# Altium integrated library TI Converter Digital to Analog.IntLib: 40 symbols
Pins are listed as number, name and electrical type; pins without a type are passive.

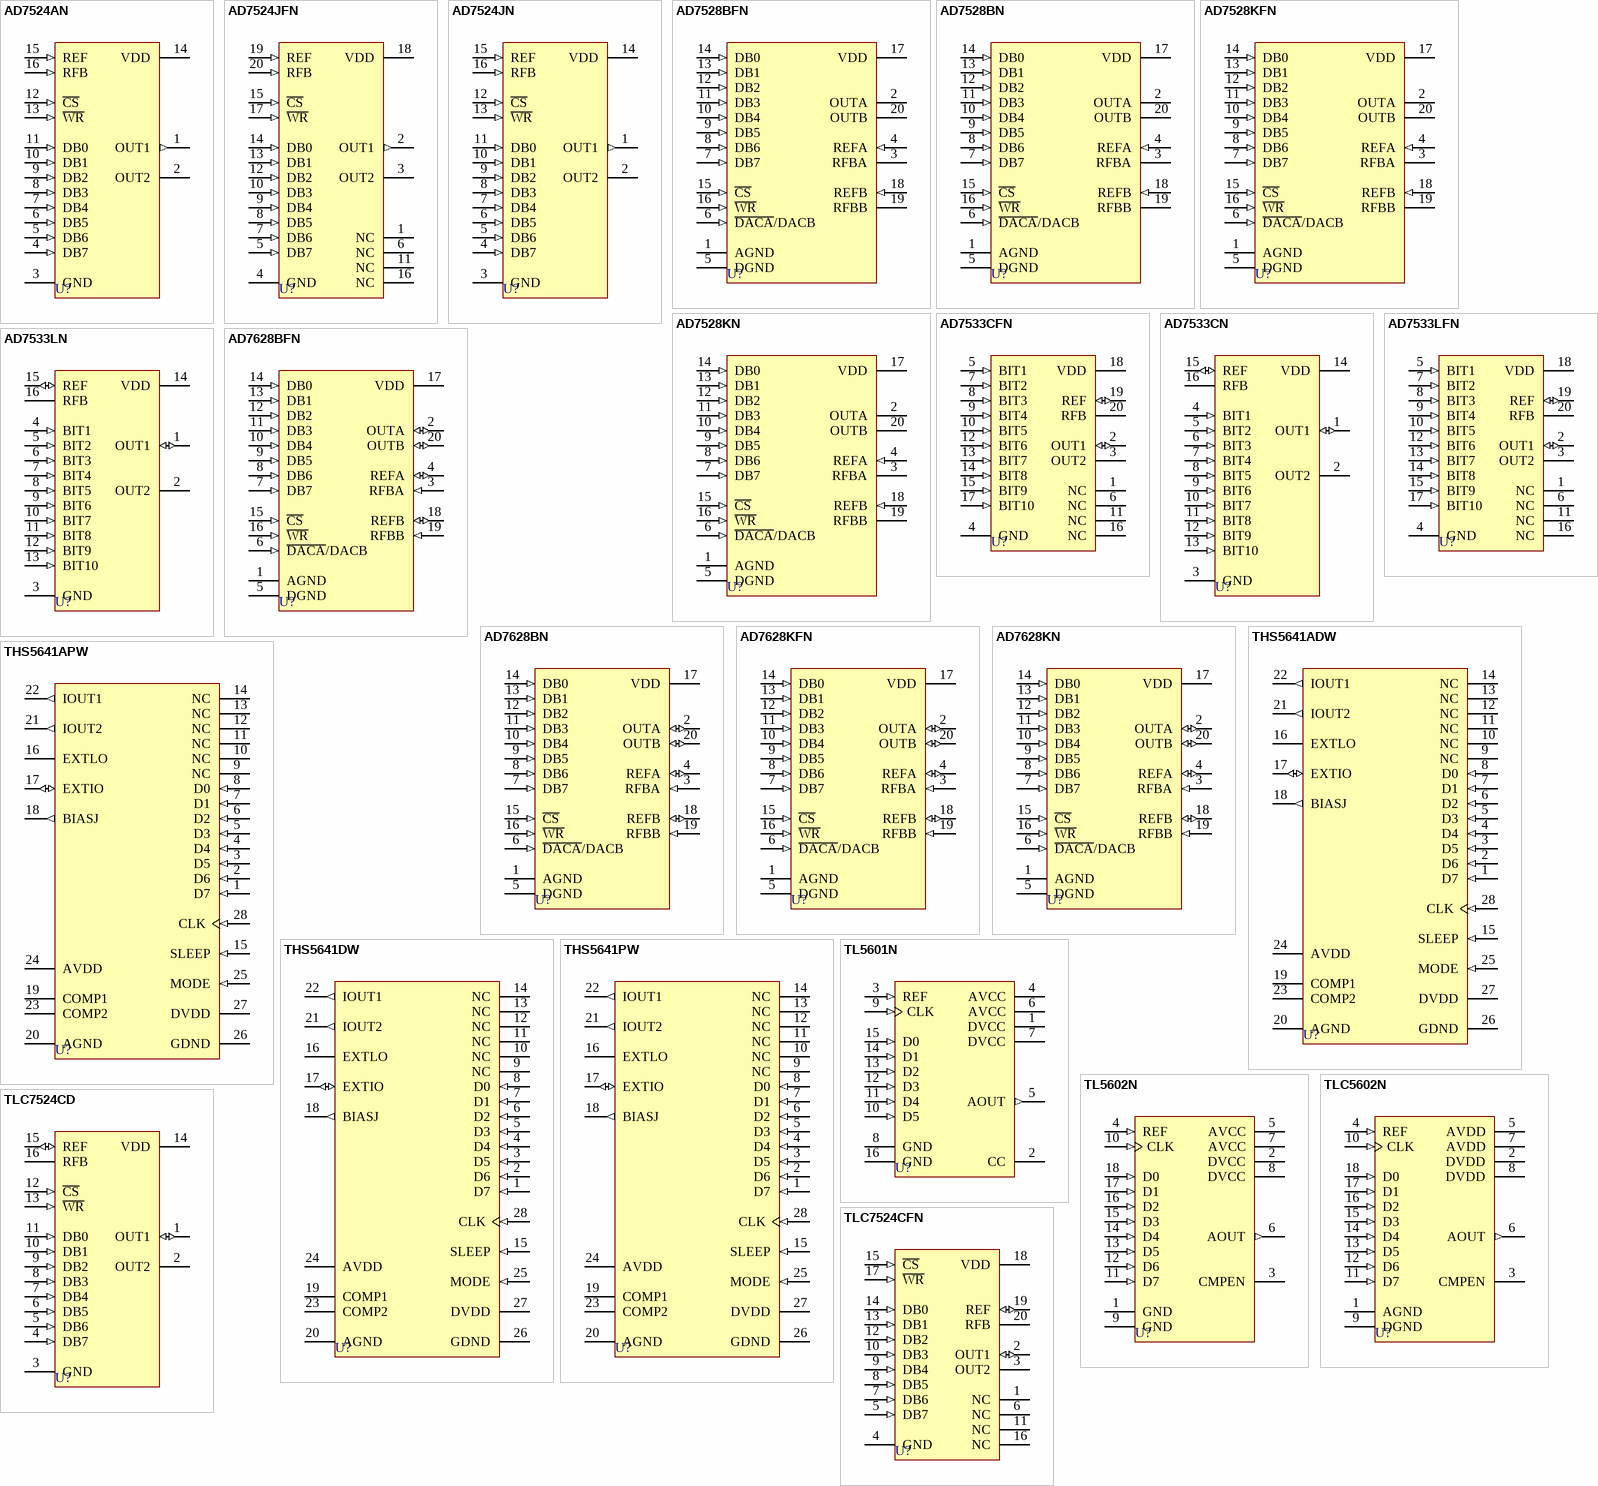
[diagram p0: symbols AD7524AN to TLC7524CFN]

## AD7524AN
designator U?
Advanced LinCMOS 8-Bit Multiplying Digital-to-Analog Converter; ComponentAvailability: Not For New Designs; Published: 15-Apr-2002; LatestRevisionDate: 08-Jul-2005; LatestRevisionNote: Stylized 3D Model Added.; DatasheetVersion: Apr-1988; PackageVersion: Oct-1995; PackageReference: N016; Publisher: Altium Limited; PackageDescription: DIP; 16 Leads; Row Spacing 7.62 mm; Pitch 2.54 mm; Code_JEDEC: MS-001-BB; ComponentLink1Description: Manufacturer Link; ComponentLink1URL: http://www.ti.com/
footprint N016 (DIP; 16 Leads; Row Spacing 7.62 mm; Pitch 2.54 mm)
3D model N016 (DIP; 16 Leads; Row Spacing 7.62 mm; Pitch 2.54 mm)
pins: 1 OUT1 (out), 2 OUT2, 3 GND (power), 4 DB7 (in), 5 DB6 (in), 6 DB5 (in), 7 DB4 (in), 8 DB3 (in), 9 DB2 (in), 10 DB1 (in), 11 DB0 (in), 12 ~{CS} (in), 13 ~{WR} (in), 14 VDD (power), 15 REF (in), 16 RFB (in)

## AD7524JFN
designator U?
Advanced LinCMOS 8-Bit Multiplying Digital-to-Analog Converter; ComponentAvailability: Not For New Designs; Published: 15-Apr-2002; LatestRevisionDate: 13-Apr-2006; LatestRevisionNote: IPC-7351 Footprint Added.; DatasheetVersion: Apr-1988; PackageVersion: Oct-1994; PackageReference: FN020; Publisher: Altium Limited; PackageDescription: 20-Pin Leaded Chip Carrier 1.27 mm Pitch; Code_IPC: PLCC-20; ComponentLink1Description: Manufacturer Link; ComponentLink1URL: http://www.ti.com/
footprint FN020_N (Leaded Chip Carrier, 20-Leads, Body 9x9mm, Pitch 1.27mm, IPC Medium Density)
footprint FN020_L (Leaded Chip Carrier, 20-Leads, Body 9x9mm, Pitch 1.27mm, IPC High Density)
footprint FN020_M (Leaded Chip Carrier, 20-Leads, Body 9x9mm, Pitch 1.27mm, IPC Low Density)
3D model AD7524-FN020 (20-Pin Leaded Chip Carrier 1.27 mm Pitch)
pins: 1 NC, 2 OUT1 (out), 3 OUT2, 4 GND (power), 5 DB7 (in), 6 NC, 7 DB6 (in), 8 DB5 (in), 9 DB4 (in), 10 DB3 (in), 11 NC, 12 DB2 (in), 13 DB1 (in), 14 DB0 (in), 15 ~{CS} (in), 16 NC, 17 ~{WR} (in), 18 VDD (power), 19 REF (in), 20 RFB (in)

## AD7524JN
designator U?
Advanced LinCMOS 8-Bit Multiplying Digital-to-Analog Converter; ComponentAvailability: Not For New Designs; Published: 15-Apr-2002; LatestRevisionDate: 08-Jul-2005; LatestRevisionNote: Stylized 3D Model Added.; DatasheetVersion: Apr-1988; PackageVersion: Oct-1995; PackageReference: N016; Publisher: Altium Limited; PackageDescription: DIP; 16 Leads; Row Spacing 7.62 mm; Pitch 2.54 mm; Code_JEDEC: MS-001-BB; ComponentLink1Description: Manufacturer Link; ComponentLink1URL: http://www.ti.com/
footprint N016 (DIP; 16 Leads; Row Spacing 7.62 mm; Pitch 2.54 mm)
3D model N016 (DIP; 16 Leads; Row Spacing 7.62 mm; Pitch 2.54 mm)
pins: 1 OUT1 (out), 2 OUT2, 3 GND (power), 4 DB7 (in), 5 DB6 (in), 6 DB5 (in), 7 DB4 (in), 8 DB3 (in), 9 DB2 (in), 10 DB1 (in), 11 DB0 (in), 12 ~{CS} (in), 13 ~{WR} (in), 14 VDD (power), 15 REF (in), 16 RFB (in)

## AD7528BFN
designator U?
Advanced LinCMOS Dual 8-Bit Multiplying Digital-to-Analog Converter; Published: 15-Apr-2002; LatestRevisionDate: 13-Apr-2006; LatestRevisionNote: IPC-7351 Footprint Added.; DatasheetVersion: Jul-1988; PackageVersion: Oct-1994; PackageReference: FN020; Publisher: Altium Limited; PackageDescription: 20-Pin Leaded Chip Carrier 1.27 mm Pitch; Code_IPC: PLCC-20; ComponentLink1Description: Manufacturer Link; ComponentLink1URL: http://www.ti.com/
footprint FN020_N (Leaded Chip Carrier, 20-Leads, Body 9x9mm, Pitch 1.27mm, IPC Medium Density)
footprint FN020_L (Leaded Chip Carrier, 20-Leads, Body 9x9mm, Pitch 1.27mm, IPC High Density)
footprint FN020_M (Leaded Chip Carrier, 20-Leads, Body 9x9mm, Pitch 1.27mm, IPC Low Density)
3D model AD7528-FN020 (20-Pin Leaded Chip Carrier 1.27 mm Pitch)
pins: 1 AGND (power), 2 OUTA, 3 RFBA, 4 REFA (in), 5 DGND (power), 6 ~{DACA}/DACB (in), 7 DB7 (in), 8 DB6 (in), 9 DB5 (in), 10 DB4 (in), 11 DB3 (in), 12 DB2 (in), 13 DB1 (in), 14 DB0 (in), 15 ~{CS} (in), 16 ~{WR} (in), 17 VDD (power), 18 REFB (in), 19 RFBB, 20 OUTB

## AD7528BN
designator U?
Advanced LinCMOS Dual 8-Bit Multiplying Digital-to-Analog Converter; Published: 15-Apr-2002; LatestRevisionDate: 08-Jul-2005; LatestRevisionNote: Stylized 3D Model Added.; DatasheetVersion: Jul-1988; PackageVersion: Oct-1995; PackageReference: N020; Publisher: Altium Limited; PackageDescription: DIP; 20 Leads; Row Spacing 7.62 mm; Pitch 2.54 mm; ComponentLink1Description: Manufacturer Link; ComponentLink1URL: http://www.ti.com/
footprint N020 (DIP; 20 Leads; Row Spacing 7.62 mm; Pitch 2.54 mm)
3D model N020 (DIP; 20 Leads; Row Spacing 7.62 mm; Pitch 2.54 mm)
pins: 1 AGND (power), 2 OUTA, 3 RFBA, 4 REFA (in), 5 DGND (power), 6 ~{DACA}/DACB (in), 7 DB7 (in), 8 DB6 (in), 9 DB5 (in), 10 DB4 (in), 11 DB3 (in), 12 DB2 (in), 13 DB1 (in), 14 DB0 (in), 15 ~{CS} (in), 16 ~{WR} (in), 17 VDD (power), 18 REFB (in), 19 RFBB, 20 OUTB

## AD7528KFN
designator U?
Advanced LinCMOS Dual 8-Bit Multiplying Digital-to-Analog Converter; Published: 15-Apr-2002; LatestRevisionDate: 13-Apr-2006; LatestRevisionNote: IPC-7351 Footprint Added.; DatasheetVersion: Jul-1988; PackageVersion: Oct-1994; PackageReference: FN020; Publisher: Altium Limited; PackageDescription: 20-Pin Leaded Chip Carrier 1.27 mm Pitch; Code_IPC: PLCC-20; ComponentLink1Description: Manufacturer Link; ComponentLink1URL: http://www.ti.com/
footprint FN020_N (Leaded Chip Carrier, 20-Leads, Body 9x9mm, Pitch 1.27mm, IPC Medium Density)
footprint FN020_L (Leaded Chip Carrier, 20-Leads, Body 9x9mm, Pitch 1.27mm, IPC High Density)
footprint FN020_M (Leaded Chip Carrier, 20-Leads, Body 9x9mm, Pitch 1.27mm, IPC Low Density)
3D model AD7528-FN020 (20-Pin Leaded Chip Carrier 1.27 mm Pitch)
pins: 1 AGND (power), 2 OUTA, 3 RFBA, 4 REFA (in), 5 DGND (power), 6 ~{DACA}/DACB (in), 7 DB7 (in), 8 DB6 (in), 9 DB5 (in), 10 DB4 (in), 11 DB3 (in), 12 DB2 (in), 13 DB1 (in), 14 DB0 (in), 15 ~{CS} (in), 16 ~{WR} (in), 17 VDD (power), 18 REFB (in), 19 RFBB, 20 OUTB

## AD7528KN
designator U?
Advanced LinCMOS Dual 8-Bit Multiplying Digital-to-Analog Converter; Published: 15-Apr-2002; LatestRevisionDate: 08-Jul-2005; LatestRevisionNote: Stylized 3D Model Added.; DatasheetVersion: Jul-1988; PackageVersion: Oct-1995; PackageReference: N020; Publisher: Altium Limited; PackageDescription: DIP; 20 Leads; Row Spacing 7.62 mm; Pitch 2.54 mm; ComponentLink1Description: Manufacturer Link; ComponentLink1URL: http://www.ti.com/
footprint N020 (DIP; 20 Leads; Row Spacing 7.62 mm; Pitch 2.54 mm)
3D model N020 (DIP; 20 Leads; Row Spacing 7.62 mm; Pitch 2.54 mm)
pins: 1 AGND (power), 2 OUTA, 3 RFBA, 4 REFA (in), 5 DGND (power), 6 ~{DACA}/DACB (in), 7 DB7 (in), 8 DB6 (in), 9 DB5 (in), 10 DB4 (in), 11 DB3 (in), 12 DB2 (in), 13 DB1 (in), 14 DB0 (in), 15 ~{CS} (in), 16 ~{WR} (in), 17 VDD (power), 18 REFB (in), 19 RFBB, 20 OUTB

## AD7533CFN
designator U?
Advanced LinCMOS Dual 10-Bit Multiplying Digital-to-Analog Converter; Published: 15-Apr-2002; LatestRevisionDate: 13-Apr-2006; LatestRevisionNote: IPC-7351 Footprint Added.; DatasheetVersion: Feb-1989; PackageVersion: Oct-1994; PackageReference: FN020; Publisher: Altium Limited; PackageDescription: 20-Pin Leaded Chip Carrier 1.27 mm Pitch; Code_IPC: PLCC-20; ComponentLink1Description: Manufacturer Link; ComponentLink1URL: http://www.ti.com/
footprint FN020_N (Leaded Chip Carrier, 20-Leads, Body 9x9mm, Pitch 1.27mm, IPC Medium Density)
footprint FN020_L (Leaded Chip Carrier, 20-Leads, Body 9x9mm, Pitch 1.27mm, IPC High Density)
footprint FN020_M (Leaded Chip Carrier, 20-Leads, Body 9x9mm, Pitch 1.27mm, IPC Low Density)
3D model AD7533-FN020 (20-Pin Leaded Chip Carrier 1.27 mm Pitch)
pins: 1 NC, 2 OUT1 (io), 3 OUT2, 4 GND (power), 5 BIT1 (in), 6 NC, 7 BIT2 (in), 8 BIT3 (in), 9 BIT4 (in), 10 BIT5 (in), 11 NC, 12 BIT6 (in), 13 BIT7 (in), 14 BIT8 (in), 15 BIT9 (in), 16 NC, 17 BIT10 (in), 18 VDD (power), 19 REF (io), 20 RFB

## AD7533CN
designator U?
Advanced LinCMOS Dual 10-Bit Multiplying Digital-to-Analog Converter; Published: 15-Apr-2002; LatestRevisionDate: 08-Jul-2005; LatestRevisionNote: Stylized 3D Model Added.; DatasheetVersion: Feb-1989; PackageVersion: Oct-1995; PackageReference: N016; Publisher: Altium Limited; PackageDescription: DIP; 16 Leads; Row Spacing 7.62 mm; Pitch 2.54 mm; Code_JEDEC: MS-001-BB; ComponentLink1Description: Manufacturer Link; ComponentLink1URL: http://www.ti.com/
footprint N016 (DIP; 16 Leads; Row Spacing 7.62 mm; Pitch 2.54 mm)
3D model N016 (DIP; 16 Leads; Row Spacing 7.62 mm; Pitch 2.54 mm)
pins: 1 OUT1 (io), 2 OUT2, 3 GND (power), 4 BIT1 (in), 5 BIT2 (in), 6 BIT3 (in), 7 BIT4 (in), 8 BIT5 (in), 9 BIT6 (in), 10 BIT7 (in), 11 BIT8 (in), 12 BIT9 (in), 13 BIT10 (in), 14 VDD (power), 15 REF (io), 16 RFB

## AD7533LFN
designator U?
Advanced LinCMOS Dual 10-Bit Multiplying Digital-to-Analog Converter; Published: 15-Apr-2002; LatestRevisionDate: 13-Apr-2006; LatestRevisionNote: IPC-7351 Footprint Added.; DatasheetVersion: Feb-1989; PackageVersion: Oct-1994; PackageReference: FN020; Publisher: Altium Limited; PackageDescription: 20-Pin Leaded Chip Carrier 1.27 mm Pitch; Code_IPC: PLCC-20; ComponentLink1Description: Manufacturer Link; ComponentLink1URL: http://www.ti.com/
footprint FN020_N (Leaded Chip Carrier, 20-Leads, Body 9x9mm, Pitch 1.27mm, IPC Medium Density)
footprint FN020_L (Leaded Chip Carrier, 20-Leads, Body 9x9mm, Pitch 1.27mm, IPC High Density)
footprint FN020_M (Leaded Chip Carrier, 20-Leads, Body 9x9mm, Pitch 1.27mm, IPC Low Density)
3D model AD7533-FN020 (20-Pin Leaded Chip Carrier 1.27 mm Pitch)
pins: 1 NC, 2 OUT1 (io), 3 OUT2, 4 GND (power), 5 BIT1 (in), 6 NC, 7 BIT2 (in), 8 BIT3 (in), 9 BIT4 (in), 10 BIT5 (in), 11 NC, 12 BIT6 (in), 13 BIT7 (in), 14 BIT8 (in), 15 BIT9 (in), 16 NC, 17 BIT10 (in), 18 VDD (power), 19 REF (io), 20 RFB

## AD7533LN
designator U?
Advanced LinCMOS Dual 10-Bit Multiplying Digital-to-Analog Converter; Published: 15-Apr-2002; LatestRevisionDate: 08-Jul-2005; LatestRevisionNote: Stylized 3D Model Added.; DatasheetVersion: Feb-1989; PackageVersion: Oct-1995; PackageReference: N016; Publisher: Altium Limited; PackageDescription: DIP; 16 Leads; Row Spacing 7.62 mm; Pitch 2.54 mm; Code_JEDEC: MS-001-BB; ComponentLink1Description: Manufacturer Link; ComponentLink1URL: http://www.ti.com/
footprint N016 (DIP; 16 Leads; Row Spacing 7.62 mm; Pitch 2.54 mm)
3D model N016 (DIP; 16 Leads; Row Spacing 7.62 mm; Pitch 2.54 mm)
pins: 1 OUT1 (io), 2 OUT2, 3 GND (power), 4 BIT1 (in), 5 BIT2 (in), 6 BIT3 (in), 7 BIT4 (in), 8 BIT5 (in), 9 BIT6 (in), 10 BIT7 (in), 11 BIT8 (in), 12 BIT9 (in), 13 BIT10 (in), 14 VDD (power), 15 REF (io), 16 RFB

## AD7628BFN
designator U?
Advanced LinCMOS Dual 8-Bit Multiplying Digital-to-Analog Converter; Published: 15-Apr-2002; LatestRevisionDate: 13-Apr-2006; LatestRevisionNote: IPC-7351 Footprint Added.; DatasheetVersion: Jan-1989; PackageVersion: Oct-1994; PackageReference: FN020; Publisher: Altium Limited; PackageDescription: 20-Pin Leaded Chip Carrier 1.27 mm Pitch; Code_IPC: PLCC-20; ComponentLink1Description: Manufacturer Link; ComponentLink1URL: http://www.ti.com/
footprint FN020_N (Leaded Chip Carrier, 20-Leads, Body 9x9mm, Pitch 1.27mm, IPC Medium Density)
footprint FN020_L (Leaded Chip Carrier, 20-Leads, Body 9x9mm, Pitch 1.27mm, IPC High Density)
footprint FN020_M (Leaded Chip Carrier, 20-Leads, Body 9x9mm, Pitch 1.27mm, IPC Low Density)
3D model AD7628-FN020 (20-Pin Leaded Chip Carrier 1.27 mm Pitch)
pins: 1 AGND (power), 2 OUTA (io), 3 RFBA (in), 4 REFA (io), 5 DGND (power), 6 ~{DACA}/DACB (in), 7 DB7 (in), 8 DB6 (in), 9 DB5 (in), 10 DB4 (in), 11 DB3 (in), 12 DB2 (in), 13 DB1 (in), 14 DB0 (in), 15 ~{CS} (in), 16 ~{WR} (in), 17 VDD (power), 18 REFB (io), 19 RFBB (in), 20 OUTB (io)

## AD7628BN
designator U?
Advanced LinCMOS Dual 8-Bit Multiplying Digital-to-Analog Converter; Published: 15-Apr-2002; LatestRevisionDate: 08-Jul-2005; LatestRevisionNote: Stylized 3D Model Added.; DatasheetVersion: Jan-1989; PackageVersion: Oct-1995; PackageReference: N020; Publisher: Altium Limited; PackageDescription: DIP; 20 Leads; Row Spacing 7.62 mm; Pitch 2.54 mm; ComponentLink1Description: Manufacturer Link; ComponentLink1URL: http://www.ti.com/
footprint N020 (DIP; 20 Leads; Row Spacing 7.62 mm; Pitch 2.54 mm)
3D model N020 (DIP; 20 Leads; Row Spacing 7.62 mm; Pitch 2.54 mm)
pins: 1 AGND (power), 2 OUTA (io), 3 RFBA (in), 4 REFA (io), 5 DGND (power), 6 ~{DACA}/DACB (in), 7 DB7 (in), 8 DB6 (in), 9 DB5 (in), 10 DB4 (in), 11 DB3 (in), 12 DB2 (in), 13 DB1 (in), 14 DB0 (in), 15 ~{CS} (in), 16 ~{WR} (in), 17 VDD (power), 18 REFB (io), 19 RFBB (in), 20 OUTB (io)

## AD7628KFN
designator U?
Advanced LinCMOS Dual 8-Bit Multiplying Digital-to-Analog Converter; Published: 15-Apr-2002; LatestRevisionDate: 13-Apr-2006; LatestRevisionNote: IPC-7351 Footprint Added.; DatasheetVersion: Jan-1989; PackageVersion: Oct-1994; PackageReference: FN020; Publisher: Altium Limited; PackageDescription: 20-Pin Leaded Chip Carrier 1.27 mm Pitch; Code_IPC: PLCC-20; ComponentLink1Description: Manufacturer Link; ComponentLink1URL: http://www.ti.com/
footprint FN020_N (Leaded Chip Carrier, 20-Leads, Body 9x9mm, Pitch 1.27mm, IPC Medium Density)
footprint FN020_L (Leaded Chip Carrier, 20-Leads, Body 9x9mm, Pitch 1.27mm, IPC High Density)
footprint FN020_M (Leaded Chip Carrier, 20-Leads, Body 9x9mm, Pitch 1.27mm, IPC Low Density)
3D model AD7628-FN020 (20-Pin Leaded Chip Carrier 1.27 mm Pitch)
pins: 1 AGND (power), 2 OUTA (io), 3 RFBA (in), 4 REFA (io), 5 DGND (power), 6 ~{DACA}/DACB (in), 7 DB7 (in), 8 DB6 (in), 9 DB5 (in), 10 DB4 (in), 11 DB3 (in), 12 DB2 (in), 13 DB1 (in), 14 DB0 (in), 15 ~{CS} (in), 16 ~{WR} (in), 17 VDD (power), 18 REFB (io), 19 RFBB (in), 20 OUTB (io)

## AD7628KN
designator U?
Advanced LinCMOS Dual 8-Bit Multiplying Digital-to-Analog Converter; Published: 15-Apr-2002; LatestRevisionDate: 08-Jul-2005; LatestRevisionNote: Stylized 3D Model Added.; DatasheetVersion: Jan-1989; PackageVersion: Oct-1995; PackageReference: N020; Publisher: Altium Limited; PackageDescription: DIP; 20 Leads; Row Spacing 7.62 mm; Pitch 2.54 mm; ComponentLink1Description: Manufacturer Link; ComponentLink1URL: http://www.ti.com/
footprint N020 (DIP; 20 Leads; Row Spacing 7.62 mm; Pitch 2.54 mm)
3D model N020 (DIP; 20 Leads; Row Spacing 7.62 mm; Pitch 2.54 mm)
pins: 1 AGND (power), 2 OUTA (io), 3 RFBA (in), 4 REFA (io), 5 DGND (power), 6 ~{DACA}/DACB (in), 7 DB7 (in), 8 DB6 (in), 9 DB5 (in), 10 DB4 (in), 11 DB3 (in), 12 DB2 (in), 13 DB1 (in), 14 DB0 (in), 15 ~{CS} (in), 16 ~{WR} (in), 17 VDD (power), 18 REFB (io), 19 RFBB (in), 20 OUTB (io)

## THS5641ADW
designator U?
8-Bit, 100 MSPS, CommsDAC, Digital-to-Analog Converter; Published: 23-Sep-2002; LatestRevisionDate: 13-Apr-2006; LatestRevisionNote: IPC-7351 Footprint Added.; DatasheetVersion: Mar-2000; PackageVersion: Mar-2000; PackageReference: DW028; Publisher: Altium Limited; PackageDescription: 28-Pin Plastic Small Outline Integrated Circuit 1.27 mm Pitch; Code_JEDEC: MS-013; ComponentLink1Description: Manufacturer Link; ComponentLink1URL: http://www.ti.com/; ComponentLink2Description: Datasheet; ComponentLink2URL: http://www-s.ti.com/sc/ds/ths5641a.pdf
footprint DW028_N (SOIC, 28-Leads, Body 17.9x7.5mm, Pitch 1.27mm, IPC Medium Density)
footprint DW028_L (SOIC, 28-Leads, Body 17.9x7.5mm, Pitch 1.27mm, IPC High Density)
footprint DW028_M (SOIC, 28-Leads, Body 17.9x7.5mm, Pitch 1.27mm, IPC Low Density)
3D model DW028 (28-Pin Plastic Small Outline Integrated Circuit 1.27 mm Pitch)
pins: 1 D7 (in), 2 D6 (in), 3 D5 (in), 4 D4 (in), 5 D3 (in), 6 D2 (in), 7 D1 (in), 8 D0 (in), 9 NC, 10 NC, 11 NC, 12 NC, 13 NC, 14 NC, 15 SLEEP (in), 16 EXTLO, 17 EXTIO (io), 18 BIASJ (out), 19 COMP1, 20 AGND (power), 21 IOUT2 (out), 22 IOUT1 (out), 23 COMP2, 24 AVDD (power), 25 MODE (in), 26 GDND (power), 27 DVDD (power), 28 CLK (in)

## THS5641APW
designator U?
8-Bit, 100 MSPS, CommsDAC, Digital-to-Analog Converter; Published: 23-Sep-2002; LatestRevisionDate: 08-Jul-2005; LatestRevisionNote: Stylized 3D Model Added.; DatasheetVersion: Mar-2000; PackageVersion: Feb-1999; PackageReference: PW028; Publisher: Altium Limited; PackageDescription: Shrink Small Outline; 28 Leads; Body Width 4.4 mm; Pitch 0.65 mm; ComponentLink1Description: Manufacturer Link; ComponentLink1URL: http://www.ti.com/; ComponentLink2Description: Datasheet; ComponentLink2URL: http://www-s.ti.com/sc/ds/ths5641a.pdf
footprint PW028 (Shrink Small Outline; 28 Leads; Body Width 4.4 mm; Pitch 0.65 mm)
3D model PW028 (Shrink Small Outline; 28 Leads; Body Width 4.4 mm; Pitch 0.65 mm)
pins: 1 D7 (in), 2 D6 (in), 3 D5 (in), 4 D4 (in), 5 D3 (in), 6 D2 (in), 7 D1 (in), 8 D0 (in), 9 NC, 10 NC, 11 NC, 12 NC, 13 NC, 14 NC, 15 SLEEP (in), 16 EXTLO, 17 EXTIO (io), 18 BIASJ (out), 19 COMP1, 20 AGND (power), 21 IOUT2 (out), 22 IOUT1 (out), 23 COMP2, 24 AVDD (power), 25 MODE (in), 26 GDND (power), 27 DVDD (power), 28 CLK (in)

## THS5641DW
designator U?
8-Bit, 100 MSPS, CommsDAC, Digital-to-Analog Converter; ComponentAvailability: Obsolete; Published: 23-Sep-2002; LatestRevisionDate: 13-Apr-2006; LatestRevisionNote: IPC-7351 Footprint Added.; DatasheetVersion: Jun-1999; PackageVersion: Mar-2000; PackageReference: DW028; Publisher: Altium Limited; PackageDescription: 28-Pin Plastic Small Outline Integrated Circuit 1.27 mm Pitch; Code_JEDEC: MS-013; ComponentLink1Description: Manufacturer Link; ComponentLink1URL: http://www.ti.com/; ComponentLink2Description: Datasheet; ComponentLink2URL: http://www-s.ti.com/sc/ds/ths5641.pdf
footprint DW028_N (SOIC, 28-Leads, Body 17.9x7.5mm, Pitch 1.27mm, IPC Medium Density)
footprint DW028_L (SOIC, 28-Leads, Body 17.9x7.5mm, Pitch 1.27mm, IPC High Density)
footprint DW028_M (SOIC, 28-Leads, Body 17.9x7.5mm, Pitch 1.27mm, IPC Low Density)
3D model DW028 (28-Pin Plastic Small Outline Integrated Circuit 1.27 mm Pitch)
pins: 1 D7 (in), 2 D6 (in), 3 D5 (in), 4 D4 (in), 5 D3 (in), 6 D2 (in), 7 D1 (in), 8 D0 (in), 9 NC, 10 NC, 11 NC, 12 NC, 13 NC, 14 NC, 15 SLEEP (in), 16 EXTLO, 17 EXTIO (io), 18 BIASJ (out), 19 COMP1, 20 AGND (power), 21 IOUT2 (out), 22 IOUT1 (out), 23 COMP2, 24 AVDD (power), 25 MODE (in), 26 GDND (power), 27 DVDD (power), 28 CLK (in)

## THS5641PW
designator U?
8-Bit, 100 MSPS, CommsDAC, Digital-to-Analog Converter; ComponentAvailability: Obsolete; Published: 23-Sep-2002; LatestRevisionDate: 08-Jul-2005; LatestRevisionNote: Stylized 3D Model Added.; DatasheetVersion: Jun-1999; PackageVersion: Feb-1999; PackageReference: PW028; Publisher: Altium Limited; PackageDescription: Shrink Small Outline; 28 Leads; Body Width 4.4 mm; Pitch 0.65 mm; ComponentLink1Description: Manufacturer Link; ComponentLink1URL: http://www.ti.com/; ComponentLink2Description: Datasheet; ComponentLink2URL: http://www-s.ti.com/sc/ds/ths5641.pdf
footprint PW028 (Shrink Small Outline; 28 Leads; Body Width 4.4 mm; Pitch 0.65 mm)
3D model PW028 (Shrink Small Outline; 28 Leads; Body Width 4.4 mm; Pitch 0.65 mm)
pins: 1 D7 (in), 2 D6 (in), 3 D5 (in), 4 D4 (in), 5 D3 (in), 6 D2 (in), 7 D1 (in), 8 D0 (in), 9 NC, 10 NC, 11 NC, 12 NC, 13 NC, 14 NC, 15 SLEEP (in), 16 EXTLO, 17 EXTIO (io), 18 BIASJ (out), 19 COMP1, 20 AGND (power), 21 IOUT2 (out), 22 IOUT1 (out), 23 COMP2, 24 AVDD (power), 25 MODE (in), 26 GDND (power), 27 DVDD (power), 28 CLK (in)

## TL5601N
designator U?
6-Bit Digital-to-Analog Converter; Published: 15-Apr-2002; LatestRevisionDate: 08-Jul-2005; LatestRevisionNote: Stylized 3D Model Added.; DatasheetVersion: Oct-1988; PackageVersion: Oct-1995; PackageReference: N016; Publisher: Altium Limited; PackageDescription: DIP; 16 Leads; Row Spacing 7.62 mm; Pitch 2.54 mm; Code_JEDEC: MS-001-BB; ComponentLink1Description: Manufacturer Link; ComponentLink1URL: http://www.ti.com/
footprint N016 (DIP; 16 Leads; Row Spacing 7.62 mm; Pitch 2.54 mm)
3D model N016 (DIP; 16 Leads; Row Spacing 7.62 mm; Pitch 2.54 mm)
pins: 1 DVCC (power), 2 CC, 3 REF (in), 4 AVCC (power), 5 AOUT (out), 6 AVCC (power), 7 DVCC (power), 8 GND (power), 9 CLK (in), 10 D5 (in), 11 D4 (in), 12 D3 (in), 13 D2 (in), 14 D1 (in), 15 D0 (in), 16 GND (power)

## TL5602N
designator U?
8-Bit Digital-to-Analog Converter; ComponentAvailability: Obsolete; Published: 15-Apr-2002; LatestRevisionDate: 08-Jul-2005; LatestRevisionNote: Stylized 3D Model Added.; DatasheetVersion: Sep-1988; PackageVersion: Oct-1995; PackageReference: N018; Publisher: Altium Limited; PackageDescription: DIP; 18 Leads; Row Spacing 7.62 mm; Pitch 2.54 mm; ComponentLink1Description: Manufacturer Link; ComponentLink1URL: http://www.ti.com/
footprint N018 (DIP; 18 Leads; Row Spacing 7.62 mm; Pitch 2.54 mm)
3D model N018 (DIP; 18 Leads; Row Spacing 7.62 mm; Pitch 2.54 mm)
pins: 1 GND (power), 2 DVCC (power), 3 CMPEN, 4 REF (in), 5 AVCC (power), 6 AOUT (out), 7 AVCC (power), 8 DVCC (power), 9 GND (power), 10 CLK (in), 11 D7 (in), 12 D6 (in), 13 D5 (in), 14 D4 (in), 15 D3 (in), 16 D2 (in), 17 D1 (in), 18 D0 (in)

## TLC5602N
designator U?
LinEPIC 8-Bit Digital-to-Analog Converter; Published: 15-Apr-2002; LatestRevisionDate: 08-Jul-2005; LatestRevisionNote: Stylized 3D Model Added.; DatasheetVersion: Feb-1989; PackageVersion: Oct-1995; PackageReference: N018; Publisher: Altium Limited; PackageDescription: DIP; 18 Leads; Row Spacing 7.62 mm; Pitch 2.54 mm; ComponentLink1Description: Manufacturer Link; ComponentLink1URL: http://www.ti.com/
footprint N018 (DIP; 18 Leads; Row Spacing 7.62 mm; Pitch 2.54 mm)
3D model N018 (DIP; 18 Leads; Row Spacing 7.62 mm; Pitch 2.54 mm)
pins: 1 AGND (power), 2 DVDD (power), 3 CMPEN, 4 REF (in), 5 AVDD (power), 6 AOUT (out), 7 AVDD (power), 8 DVDD (power), 9 DGND (power), 10 CLK (in), 11 D7 (in), 12 D6 (in), 13 D5 (in), 14 D4 (in), 15 D3 (in), 16 D2 (in), 17 D1 (in), 18 D0 (in)

## TLC7524CD
designator U?
Advanced LinCMOS 8-Bit Multiplying Digital-to-Analog Converter; Published: 15-Apr-2002; LatestRevisionDate: 13-Apr-2006; LatestRevisionNote: IPC-7351 Footprint Added.; DatasheetVersion: Oct-1988; PackageVersion: Jan-1998; PackageReference: D016; Publisher: Altium Limited; PackageDescription: 16-Pin Small Outline Integrated Circuit 1.27 mm Pitch; Code_IPC: SOIC127P600-16; ComponentLink1Description: Manufacturer Link; ComponentLink1URL: http://www.ti.com/; ComponentLink2Description: Datasheet; ComponentLink2URL: http://www-s.ti.com/sc/ds/tlc7524.pdf
footprint D016_N (SOIC, 16-Leads, Body 9.9x3.9mm, Pitch 1.27mm, IPC Medium Density)
footprint D016_L (SOIC, 16-Leads, Body 9.9x3.9mm, Pitch 1.27mm, IPC High Density)
footprint D016_M (SOIC, 16-Leads, Body 9.9x3.9mm, Pitch 1.27mm, IPC Low Density)
3D model D016 (16-Pin Small Outline Integrated Circuit 1.27 mm Pitch)
pins: 1 OUT1 (io), 2 OUT2, 3 GND (power), 4 DB7 (in), 5 DB6 (in), 6 DB5 (in), 7 DB4 (in), 8 DB3 (in), 9 DB2 (in), 10 DB1 (in), 11 DB0 (in), 12 ~{CS} (in), 13 ~{WR} (in), 14 VDD (power), 15 REF (io), 16 RFB

## TLC7524CFN
designator U?
Advanced LinCMOS 8-Bit Multiplying Digital-to-Analog Converter; Published: 15-Apr-2002; LatestRevisionDate: 13-Apr-2006; LatestRevisionNote: IPC-7351 Footprint Added.; DatasheetVersion: Oct-1988; PackageVersion: Oct-1994; PackageReference: FN020; Publisher: Altium Limited; PackageDescription: 20-Pin Leaded Chip Carrier 1.27 mm Pitch; Code_IPC: PLCC-20; ComponentLink1Description: Manufacturer Link; ComponentLink1URL: http://www.ti.com/; ComponentLink2Description: Datasheet; ComponentLink2URL: http://www-s.ti.com/sc/ds/tlc7524.pdf
footprint FN020_N (Leaded Chip Carrier, 20-Leads, Body 9x9mm, Pitch 1.27mm, IPC Medium Density)
footprint FN020_L (Leaded Chip Carrier, 20-Leads, Body 9x9mm, Pitch 1.27mm, IPC High Density)
footprint FN020_M (Leaded Chip Carrier, 20-Leads, Body 9x9mm, Pitch 1.27mm, IPC Low Density)
3D model TLC7524-FN020 (20-Pin Leaded Chip Carrier 1.27 mm Pitch)
pins: 1 NC, 2 OUT1 (io), 3 OUT2, 4 GND (power), 5 DB7 (in), 6 NC, 7 DB6 (in), 8 DB5 (in), 9 DB4 (in), 10 DB3 (in), 11 NC, 12 DB2 (in), 13 DB1 (in), 14 DB0 (in), 15 ~{CS} (in), 16 NC, 17 ~{WR} (in), 18 VDD (power), 19 REF (io), 20 RFB

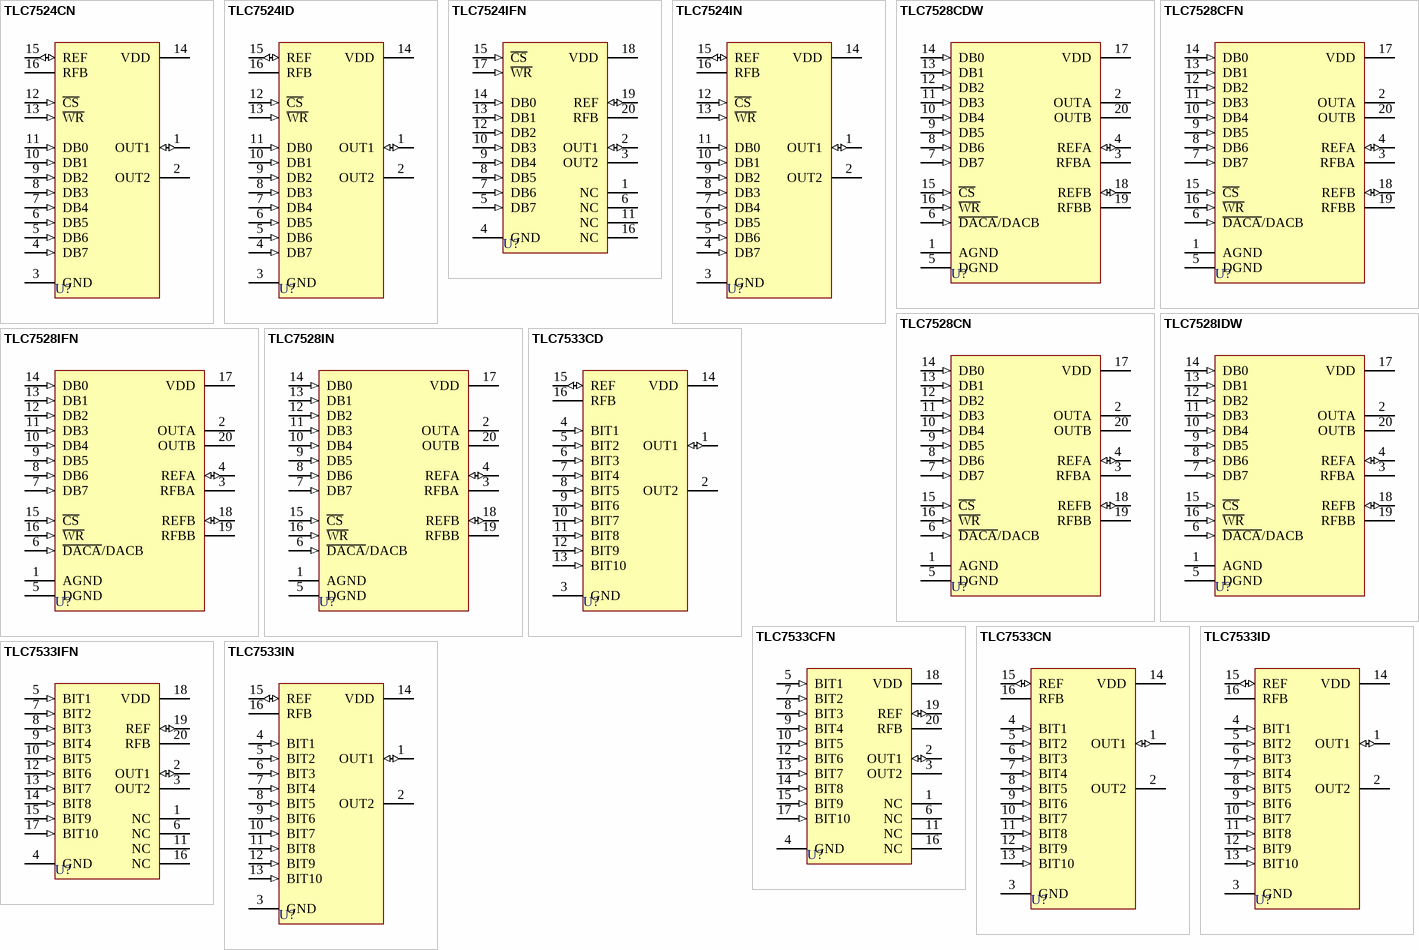
[diagram p1: symbols TLC7524CN to TLC7533IN]

## TLC7524CN
designator U?
Advanced LinCMOS 8-Bit Multiplying Digital-to-Analog Converter; Published: 15-Apr-2002; LatestRevisionDate: 08-Jul-2005; LatestRevisionNote: Stylized 3D Model Added.; DatasheetVersion: Oct-1988; PackageVersion: Oct-1995; PackageReference: N016; Publisher: Altium Limited; PackageDescription: DIP; 16 Leads; Row Spacing 7.62 mm; Pitch 2.54 mm; Code_JEDEC: MS-001-BB; ComponentLink1Description: Manufacturer Link; ComponentLink1URL: http://www.ti.com/; ComponentLink2Description: Datasheet; ComponentLink2URL: http://www-s.ti.com/sc/ds/tlc7524.pdf
footprint N016 (DIP; 16 Leads; Row Spacing 7.62 mm; Pitch 2.54 mm)
3D model N016 (DIP; 16 Leads; Row Spacing 7.62 mm; Pitch 2.54 mm)
pins: 1 OUT1 (io), 2 OUT2, 3 GND (power), 4 DB7 (in), 5 DB6 (in), 6 DB5 (in), 7 DB4 (in), 8 DB3 (in), 9 DB2 (in), 10 DB1 (in), 11 DB0 (in), 12 ~{CS} (in), 13 ~{WR} (in), 14 VDD (power), 15 REF (io), 16 RFB

## TLC7524ID
designator U?
Advanced LinCMOS 8-Bit Multiplying Digital-to-Analog Converter; Published: 15-Apr-2002; LatestRevisionDate: 13-Apr-2006; LatestRevisionNote: IPC-7351 Footprint Added.; DatasheetVersion: Oct-1988; PackageVersion: Jan-1998; PackageReference: D016; Publisher: Altium Limited; PackageDescription: 16-Pin Small Outline Integrated Circuit 1.27 mm Pitch; Code_IPC: SOIC127P600-16; ComponentLink1Description: Manufacturer Link; ComponentLink1URL: http://www.ti.com/; ComponentLink2Description: Datasheet; ComponentLink2URL: http://www-s.ti.com/sc/ds/tlc7524.pdf
footprint D016_N (SOIC, 16-Leads, Body 9.9x3.9mm, Pitch 1.27mm, IPC Medium Density)
footprint D016_L (SOIC, 16-Leads, Body 9.9x3.9mm, Pitch 1.27mm, IPC High Density)
footprint D016_M (SOIC, 16-Leads, Body 9.9x3.9mm, Pitch 1.27mm, IPC Low Density)
3D model D016 (16-Pin Small Outline Integrated Circuit 1.27 mm Pitch)
pins: 1 OUT1 (io), 2 OUT2, 3 GND (power), 4 DB7 (in), 5 DB6 (in), 6 DB5 (in), 7 DB4 (in), 8 DB3 (in), 9 DB2 (in), 10 DB1 (in), 11 DB0 (in), 12 ~{CS} (in), 13 ~{WR} (in), 14 VDD (power), 15 REF (io), 16 RFB

## TLC7524IFN
designator U?
Advanced LinCMOS 8-Bit Multiplying Digital-to-Analog Converter; Published: 15-Apr-2002; LatestRevisionDate: 13-Apr-2006; LatestRevisionNote: IPC-7351 Footprint Added.; DatasheetVersion: Oct-1988; PackageVersion: Oct-1994; PackageReference: FN020; Publisher: Altium Limited; PackageDescription: 20-Pin Leaded Chip Carrier 1.27 mm Pitch; Code_IPC: PLCC-20; ComponentLink1Description: Manufacturer Link; ComponentLink1URL: http://www.ti.com/; ComponentLink2Description: Datasheet; ComponentLink2URL: http://www-s.ti.com/sc/ds/tlc7524.pdf
footprint FN020_N (Leaded Chip Carrier, 20-Leads, Body 9x9mm, Pitch 1.27mm, IPC Medium Density)
footprint FN020_L (Leaded Chip Carrier, 20-Leads, Body 9x9mm, Pitch 1.27mm, IPC High Density)
footprint FN020_M (Leaded Chip Carrier, 20-Leads, Body 9x9mm, Pitch 1.27mm, IPC Low Density)
3D model TLC7524-FN020 (20-Pin Leaded Chip Carrier 1.27 mm Pitch)
pins: 1 NC, 2 OUT1 (io), 3 OUT2, 4 GND (power), 5 DB7 (in), 6 NC, 7 DB6 (in), 8 DB5 (in), 9 DB4 (in), 10 DB3 (in), 11 NC, 12 DB2 (in), 13 DB1 (in), 14 DB0 (in), 15 ~{CS} (in), 16 NC, 17 ~{WR} (in), 18 VDD (power), 19 REF (io), 20 RFB

## TLC7524IN
designator U?
Advanced LinCMOS 8-Bit Multiplying Digital-to-Analog Converter; Published: 15-Apr-2002; LatestRevisionDate: 08-Jul-2005; LatestRevisionNote: Stylized 3D Model Added.; DatasheetVersion: Oct-1988; PackageVersion: Oct-1995; PackageReference: N016; Publisher: Altium Limited; PackageDescription: DIP; 16 Leads; Row Spacing 7.62 mm; Pitch 2.54 mm; Code_JEDEC: MS-001-BB; ComponentLink1Description: Manufacturer Link; ComponentLink1URL: http://www.ti.com/; ComponentLink2Description: Datasheet; ComponentLink2URL: http://www-s.ti.com/sc/ds/tlc7524.pdf
footprint N016 (DIP; 16 Leads; Row Spacing 7.62 mm; Pitch 2.54 mm)
3D model N016 (DIP; 16 Leads; Row Spacing 7.62 mm; Pitch 2.54 mm)
pins: 1 OUT1 (io), 2 OUT2, 3 GND (power), 4 DB7 (in), 5 DB6 (in), 6 DB5 (in), 7 DB4 (in), 8 DB3 (in), 9 DB2 (in), 10 DB1 (in), 11 DB0 (in), 12 ~{CS} (in), 13 ~{WR} (in), 14 VDD (power), 15 REF (io), 16 RFB

## TLC7528CDW
designator U?
Advanced LinCMOS Dual 8-Bit Multiplying Digital-to-Analog Converter; Published: 15-Apr-2002; LatestRevisionDate: 13-Apr-2006; LatestRevisionNote: IPC-7351 Footprint Added.; DatasheetVersion: Oct-1988; PackageVersion: Mar-2000; PackageReference: DW020; Publisher: Altium Limited; PackageDescription: 20-Pin Plastic Small Outline Integrated Circuit 1.27 mm Pitch; Code_JEDEC: MS-013; Code_IPC: SOIC127P1030-20; ComponentLink1Description: Manufacturer Link; ComponentLink1URL: http://www.ti.com/; ComponentLink2Description: Datasheet; ComponentLink2URL: http://www-s.ti.com/sc/ds/tlc7528.pdf
footprint DW020_N (SOIC, 20-Leads, Body 12.8x7.5mm, Pitch 1.27mm, IPC Medium Density)
footprint DW020_L (SOIC, 20-Leads, Body 12.8x7.5mm, Pitch 1.27mm, IPC High Density)
footprint DW020_M (SOIC, 20-Leads, Body 12.8x7.5mm, Pitch 1.27mm, IPC Low Density)
3D model DW020 (20-Pin Plastic Small Outline Integrated Circuit 1.27 mm Pitch)
pins: 1 AGND (power), 2 OUTA, 3 RFBA, 4 REFA (io), 5 DGND (power), 6 ~{DACA}/DACB (in), 7 DB7 (in), 8 DB6 (in), 9 DB5 (in), 10 DB4 (in), 11 DB3 (in), 12 DB2 (in), 13 DB1 (in), 14 DB0 (in), 15 ~{CS} (in), 16 ~{WR} (in), 17 VDD (power), 18 REFB (io), 19 RFBB, 20 OUTB

## TLC7528CFN
designator U?
Advanced LinCMOS Dual 8-Bit Multiplying Digital-to-Analog Converter; Published: 15-Apr-2002; LatestRevisionDate: 13-Apr-2006; LatestRevisionNote: IPC-7351 Footprint Added.; DatasheetVersion: Oct-1988; PackageVersion: Oct-1994; PackageReference: FN020; Publisher: Altium Limited; PackageDescription: 20-Pin Leaded Chip Carrier 1.27 mm Pitch; Code_IPC: PLCC-20; ComponentLink1Description: Manufacturer Link; ComponentLink1URL: http://www.ti.com/; ComponentLink2Description: Datasheet; ComponentLink2URL: http://www-s.ti.com/sc/ds/tlc7528.pdf
footprint FN020_N (Leaded Chip Carrier, 20-Leads, Body 9x9mm, Pitch 1.27mm, IPC Medium Density)
footprint FN020_L (Leaded Chip Carrier, 20-Leads, Body 9x9mm, Pitch 1.27mm, IPC High Density)
footprint FN020_M (Leaded Chip Carrier, 20-Leads, Body 9x9mm, Pitch 1.27mm, IPC Low Density)
3D model TLC7528-FN020 (20-Pin Leaded Chip Carrier 1.27 mm Pitch)
pins: 1 AGND (power), 2 OUTA, 3 RFBA, 4 REFA (io), 5 DGND (power), 6 ~{DACA}/DACB (in), 7 DB7 (in), 8 DB6 (in), 9 DB5 (in), 10 DB4 (in), 11 DB3 (in), 12 DB2 (in), 13 DB1 (in), 14 DB0 (in), 15 ~{CS} (in), 16 ~{WR} (in), 17 VDD (power), 18 REFB (io), 19 RFBB, 20 OUTB

## TLC7528CN
designator U?
Advanced LinCMOS Dual 8-Bit Multiplying Digital-to-Analog Converter; Published: 15-Apr-2002; LatestRevisionDate: 08-Jul-2005; LatestRevisionNote: Stylized 3D Model Added.; DatasheetVersion: Oct-1988; PackageVersion: Oct-1995; PackageReference: N020; Publisher: Altium Limited; PackageDescription: DIP; 20 Leads; Row Spacing 7.62 mm; Pitch 2.54 mm; ComponentLink1Description: Manufacturer Link; ComponentLink1URL: http://www.ti.com/; ComponentLink2Description: Datasheet; ComponentLink2URL: http://www-s.ti.com/sc/ds/tlc7528.pdf
footprint N020 (DIP; 20 Leads; Row Spacing 7.62 mm; Pitch 2.54 mm)
3D model N020 (DIP; 20 Leads; Row Spacing 7.62 mm; Pitch 2.54 mm)
pins: 1 AGND (power), 2 OUTA, 3 RFBA, 4 REFA (io), 5 DGND (power), 6 ~{DACA}/DACB (in), 7 DB7 (in), 8 DB6 (in), 9 DB5 (in), 10 DB4 (in), 11 DB3 (in), 12 DB2 (in), 13 DB1 (in), 14 DB0 (in), 15 ~{CS} (in), 16 ~{WR} (in), 17 VDD (power), 18 REFB (io), 19 RFBB, 20 OUTB

## TLC7528IDW
designator U?
Advanced LinCMOS Dual 8-Bit Multiplying Digital-to-Analog Converter; Published: 15-Apr-2002; LatestRevisionDate: 13-Apr-2006; LatestRevisionNote: IPC-7351 Footprint Added.; DatasheetVersion: Oct-1988; PackageVersion: Mar-2000; PackageReference: DW020; Publisher: Altium Limited; PackageDescription: 20-Pin Plastic Small Outline Integrated Circuit 1.27 mm Pitch; Code_JEDEC: MS-013; Code_IPC: SOIC127P1030-20; ComponentLink1Description: Manufacturer Link; ComponentLink1URL: http://www.ti.com/; ComponentLink2Description: Datasheet; ComponentLink2URL: http://www-s.ti.com/sc/ds/tlc7528.pdf
footprint DW020_N (SOIC, 20-Leads, Body 12.8x7.5mm, Pitch 1.27mm, IPC Medium Density)
footprint DW020_L (SOIC, 20-Leads, Body 12.8x7.5mm, Pitch 1.27mm, IPC High Density)
footprint DW020_M (SOIC, 20-Leads, Body 12.8x7.5mm, Pitch 1.27mm, IPC Low Density)
3D model DW020 (20-Pin Plastic Small Outline Integrated Circuit 1.27 mm Pitch)
pins: 1 AGND (power), 2 OUTA, 3 RFBA, 4 REFA (io), 5 DGND (power), 6 ~{DACA}/DACB (in), 7 DB7 (in), 8 DB6 (in), 9 DB5 (in), 10 DB4 (in), 11 DB3 (in), 12 DB2 (in), 13 DB1 (in), 14 DB0 (in), 15 ~{CS} (in), 16 ~{WR} (in), 17 VDD (power), 18 REFB (io), 19 RFBB, 20 OUTB

## TLC7528IFN
designator U?
Advanced LinCMOS Dual 8-Bit Multiplying Digital-to-Analog Converter; Published: 15-Apr-2002; LatestRevisionDate: 13-Apr-2006; LatestRevisionNote: IPC-7351 Footprint Added.; DatasheetVersion: Oct-1988; PackageVersion: Oct-1994; PackageReference: FN020; Publisher: Altium Limited; PackageDescription: 20-Pin Leaded Chip Carrier 1.27 mm Pitch; Code_IPC: PLCC-20; ComponentLink1Description: Manufacturer Link; ComponentLink1URL: http://www.ti.com/; ComponentLink2Description: Datasheet; ComponentLink2URL: http://www-s.ti.com/sc/ds/tlc7528.pdf
footprint FN020_N (Leaded Chip Carrier, 20-Leads, Body 9x9mm, Pitch 1.27mm, IPC Medium Density)
footprint FN020_L (Leaded Chip Carrier, 20-Leads, Body 9x9mm, Pitch 1.27mm, IPC High Density)
footprint FN020_M (Leaded Chip Carrier, 20-Leads, Body 9x9mm, Pitch 1.27mm, IPC Low Density)
3D model TLC7528-FN020 (20-Pin Leaded Chip Carrier 1.27 mm Pitch)
pins: 1 AGND (power), 2 OUTA, 3 RFBA, 4 REFA (io), 5 DGND (power), 6 ~{DACA}/DACB (in), 7 DB7 (in), 8 DB6 (in), 9 DB5 (in), 10 DB4 (in), 11 DB3 (in), 12 DB2 (in), 13 DB1 (in), 14 DB0 (in), 15 ~{CS} (in), 16 ~{WR} (in), 17 VDD (power), 18 REFB (io), 19 RFBB, 20 OUTB

## TLC7528IN
designator U?
Advanced LinCMOS Dual 8-Bit Multiplying Digital-to-Analog Converter; Published: 15-Apr-2002; LatestRevisionDate: 08-Jul-2005; LatestRevisionNote: Stylized 3D Model Added.; DatasheetVersion: Oct-1988; PackageVersion: Oct-1995; PackageReference: N020; Publisher: Altium Limited; PackageDescription: DIP; 20 Leads; Row Spacing 7.62 mm; Pitch 2.54 mm; ComponentLink1Description: Manufacturer Link; ComponentLink1URL: http://www.ti.com/; ComponentLink2Description: Datasheet; ComponentLink2URL: http://www-s.ti.com/sc/ds/tlc7528.pdf
footprint N020 (DIP; 20 Leads; Row Spacing 7.62 mm; Pitch 2.54 mm)
3D model N020 (DIP; 20 Leads; Row Spacing 7.62 mm; Pitch 2.54 mm)
pins: 1 AGND (power), 2 OUTA, 3 RFBA, 4 REFA (io), 5 DGND (power), 6 ~{DACA}/DACB (in), 7 DB7 (in), 8 DB6 (in), 9 DB5 (in), 10 DB4 (in), 11 DB3 (in), 12 DB2 (in), 13 DB1 (in), 14 DB0 (in), 15 ~{CS} (in), 16 ~{WR} (in), 17 VDD (power), 18 REFB (io), 19 RFBB, 20 OUTB

## TLC7533CD
designator U?
Advanced LinCMOS Dual 10-Bit Multiplying Digital-to-Analog Converter; Published: 15-Apr-2002; LatestRevisionDate: 13-Apr-2006; LatestRevisionNote: IPC-7351 Footprint Added.; DatasheetVersion: Feb-1989; PackageVersion: Jan-1998; PackageReference: D016; Publisher: Altium Limited; PackageDescription: 16-Pin Small Outline Integrated Circuit 1.27 mm Pitch; Code_IPC: SOIC127P600-16; ComponentLink1Description: Manufacturer Link; ComponentLink1URL: http://www.ti.com/
footprint D016_N (SOIC, 16-Leads, Body 9.9x3.9mm, Pitch 1.27mm, IPC Medium Density)
footprint D016_L (SOIC, 16-Leads, Body 9.9x3.9mm, Pitch 1.27mm, IPC High Density)
footprint D016_M (SOIC, 16-Leads, Body 9.9x3.9mm, Pitch 1.27mm, IPC Low Density)
3D model D016 (16-Pin Small Outline Integrated Circuit 1.27 mm Pitch)
pins: 1 OUT1 (io), 2 OUT2, 3 GND (power), 4 BIT1 (in), 5 BIT2 (in), 6 BIT3 (in), 7 BIT4 (in), 8 BIT5 (in), 9 BIT6 (in), 10 BIT7 (in), 11 BIT8 (in), 12 BIT9 (in), 13 BIT10 (in), 14 VDD (power), 15 REF (io), 16 RFB

## TLC7533CFN
designator U?
Advanced LinCMOS Dual 10-Bit Multiplying Digital-to-Analog Converter; Published: 15-Apr-2002; LatestRevisionDate: 13-Apr-2006; LatestRevisionNote: IPC-7351 Footprint Added.; DatasheetVersion: Feb-1989; PackageVersion: Oct-1994; PackageReference: FN020; Publisher: Altium Limited; PackageDescription: 20-Pin Leaded Chip Carrier 1.27 mm Pitch; Code_IPC: PLCC-20; ComponentLink1Description: Manufacturer Link; ComponentLink1URL: http://www.ti.com/
footprint FN020_N (Leaded Chip Carrier, 20-Leads, Body 9x9mm, Pitch 1.27mm, IPC Medium Density)
footprint FN020_L (Leaded Chip Carrier, 20-Leads, Body 9x9mm, Pitch 1.27mm, IPC High Density)
footprint FN020_M (Leaded Chip Carrier, 20-Leads, Body 9x9mm, Pitch 1.27mm, IPC Low Density)
3D model TLC7533-FN020 (20-Pin Leaded Chip Carrier 1.27 mm Pitch)
pins: 1 NC, 2 OUT1 (io), 3 OUT2, 4 GND (power), 5 BIT1 (in), 6 NC, 7 BIT2 (in), 8 BIT3 (in), 9 BIT4 (in), 10 BIT5 (in), 11 NC, 12 BIT6 (in), 13 BIT7 (in), 14 BIT8 (in), 15 BIT9 (in), 16 NC, 17 BIT10 (in), 18 VDD (power), 19 REF (io), 20 RFB

## TLC7533CN
designator U?
Advanced LinCMOS Dual 10-Bit Multiplying Digital-to-Analog Converter; Published: 15-Apr-2002; LatestRevisionDate: 08-Jul-2005; LatestRevisionNote: Stylized 3D Model Added.; DatasheetVersion: Feb-1989; PackageVersion: Oct-1995; PackageReference: N016; Publisher: Altium Limited; PackageDescription: DIP; 16 Leads; Row Spacing 7.62 mm; Pitch 2.54 mm; Code_JEDEC: MS-001-BB; ComponentLink1Description: Manufacturer Link; ComponentLink1URL: http://www.ti.com/
footprint N016 (DIP; 16 Leads; Row Spacing 7.62 mm; Pitch 2.54 mm)
3D model N016 (DIP; 16 Leads; Row Spacing 7.62 mm; Pitch 2.54 mm)
pins: 1 OUT1 (io), 2 OUT2, 3 GND (power), 4 BIT1 (in), 5 BIT2 (in), 6 BIT3 (in), 7 BIT4 (in), 8 BIT5 (in), 9 BIT6 (in), 10 BIT7 (in), 11 BIT8 (in), 12 BIT9 (in), 13 BIT10 (in), 14 VDD (power), 15 REF (io), 16 RFB

## TLC7533ID
designator U?
Advanced LinCMOS Dual 10-Bit Multiplying Digital-to-Analog Converter; Published: 15-Apr-2002; LatestRevisionDate: 13-Apr-2006; LatestRevisionNote: IPC-7351 Footprint Added.; DatasheetVersion: Feb-1989; PackageVersion: Jan-1998; PackageReference: D016; Publisher: Altium Limited; PackageDescription: 16-Pin Small Outline Integrated Circuit 1.27 mm Pitch; Code_IPC: SOIC127P600-16; ComponentLink1Description: Manufacturer Link; ComponentLink1URL: http://www.ti.com/
footprint D016_N (SOIC, 16-Leads, Body 9.9x3.9mm, Pitch 1.27mm, IPC Medium Density)
footprint D016_L (SOIC, 16-Leads, Body 9.9x3.9mm, Pitch 1.27mm, IPC High Density)
footprint D016_M (SOIC, 16-Leads, Body 9.9x3.9mm, Pitch 1.27mm, IPC Low Density)
3D model D016 (16-Pin Small Outline Integrated Circuit 1.27 mm Pitch)
pins: 1 OUT1 (io), 2 OUT2, 3 GND (power), 4 BIT1 (in), 5 BIT2 (in), 6 BIT3 (in), 7 BIT4 (in), 8 BIT5 (in), 9 BIT6 (in), 10 BIT7 (in), 11 BIT8 (in), 12 BIT9 (in), 13 BIT10 (in), 14 VDD (power), 15 REF (io), 16 RFB

## TLC7533IFN
designator U?
Advanced LinCMOS Dual 10-Bit Multiplying Digital-to-Analog Converter; Published: 15-Apr-2002; LatestRevisionDate: 13-Apr-2006; LatestRevisionNote: IPC-7351 Footprint Added.; DatasheetVersion: Feb-1989; PackageVersion: Oct-1994; PackageReference: FN020; Publisher: Altium Limited; PackageDescription: 20-Pin Leaded Chip Carrier 1.27 mm Pitch; Code_IPC: PLCC-20; ComponentLink1Description: Manufacturer Link; ComponentLink1URL: http://www.ti.com/
footprint FN020_N (Leaded Chip Carrier, 20-Leads, Body 9x9mm, Pitch 1.27mm, IPC Medium Density)
footprint FN020_L (Leaded Chip Carrier, 20-Leads, Body 9x9mm, Pitch 1.27mm, IPC High Density)
footprint FN020_M (Leaded Chip Carrier, 20-Leads, Body 9x9mm, Pitch 1.27mm, IPC Low Density)
3D model TLC7533-FN020 (20-Pin Leaded Chip Carrier 1.27 mm Pitch)
pins: 1 NC, 2 OUT1 (io), 3 OUT2, 4 GND (power), 5 BIT1 (in), 6 NC, 7 BIT2 (in), 8 BIT3 (in), 9 BIT4 (in), 10 BIT5 (in), 11 NC, 12 BIT6 (in), 13 BIT7 (in), 14 BIT8 (in), 15 BIT9 (in), 16 NC, 17 BIT10 (in), 18 VDD (power), 19 REF (io), 20 RFB

## TLC7533IN
designator U?
Advanced LinCMOS Dual 10-Bit Multiplying Digital-to-Analog Converter; Published: 15-Apr-2002; LatestRevisionDate: 08-Jul-2005; LatestRevisionNote: Stylized 3D Model Added.; DatasheetVersion: Feb-1989; PackageVersion: Oct-1995; PackageReference: N016; Publisher: Altium Limited; PackageDescription: DIP; 16 Leads; Row Spacing 7.62 mm; Pitch 2.54 mm; Code_JEDEC: MS-001-BB; ComponentLink1Description: Manufacturer Link; ComponentLink1URL: http://www.ti.com/
footprint N016 (DIP; 16 Leads; Row Spacing 7.62 mm; Pitch 2.54 mm)
3D model N016 (DIP; 16 Leads; Row Spacing 7.62 mm; Pitch 2.54 mm)
pins: 1 OUT1 (io), 2 OUT2, 3 GND (power), 4 BIT1 (in), 5 BIT2 (in), 6 BIT3 (in), 7 BIT4 (in), 8 BIT5 (in), 9 BIT6 (in), 10 BIT7 (in), 11 BIT8 (in), 12 BIT9 (in), 13 BIT10 (in), 14 VDD (power), 15 REF (io), 16 RFB